# EAGLE library part JS-1965 (library relay-components)
Jaycon JS-1965 Lipo Charger with the MCP73831 charger chip.
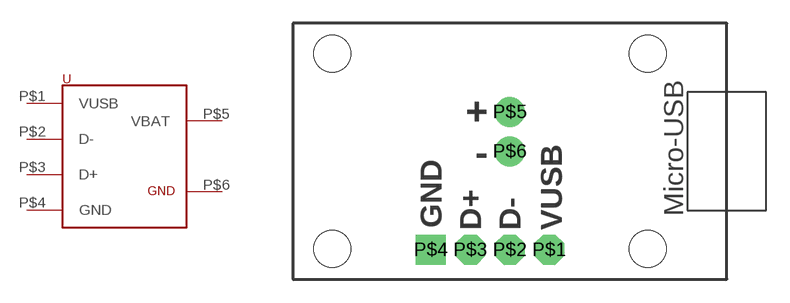
[diagram p0: symbol with the pads of JS-1965; footprint JS-1965]

Designator prefix -

## JS-1965  [JS-1965]
P$1  VUSB
P$2  D-
P$3  D+
P$4  GND
P$5  VBAT
P$6  GND

## Footprint JS-1965 (pad centres in mm)
drill 0.9 pad 1.93 octagon: P$1 16.51,2.54; P$2 13.97,2.54; P$3 11.43,2.54
drill 0.9 pad 1.93 square: P$4 8.89,2.54
drill 0.9 pad 1.93: P$5 13.97,11.43; P$6 13.97,8.89
hole 2.381 at 2.54,2.603
hole 2.381 at 22.86,2.603
hole 2.381 at 22.86,15.177
hole 2.381 at 2.54,15.177